# EAGLE library part MBT3904DW1T1G (library ZHAW_BA)
Beschreibung Zweifacher NPN Transistor, 200mA, 40V DigiKey: Pt.Nr: MBT3904DW1T1GOSCT-ND https://www.digikey.ch/product-detail/de/on-semiconductor/MBT3904DW1T1G/MBT3904DW1T1GOSCT-ND/918012
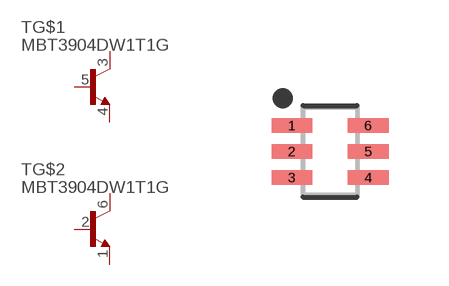
[diagram p0: symbol with the pads of SOT23-6; footprint SOT23-6]

Designator prefix T; gates G$1=NPN G$2=NPN

## MBT3904DW1T1G  [SOT23-6]
1  G$2:E  pas
2  G$2:B  pas
3  G$1:C  pas
4  G$1:E  pas
5  G$1:B  pas
6  G$2:C  pas

## Footprint SOT23-6 (pad centres in mm)
6-SOT23, 0.65 mm pitch, 2.10 mm span, 2.00 X 1.25 X 1.10 mm body 6-pin SOT23 package with 0.65 mm pitch, 2.10 mm span with body size 2.00 X 1.25 X 1.10 mm
smd 1.02 x 0.36: 1 -0.955,0.65; 2 -0.955,0; 3 -0.955,-0.65; 4 0.955,-0.65; 5 0.955,0; 6 0.955,0.65